# Altium schematic symbol library MOD-E73-2G4M04S1B.SchLib: 1 symbol
Pins are listed as number, name and electrical type; pins without a type are passive.

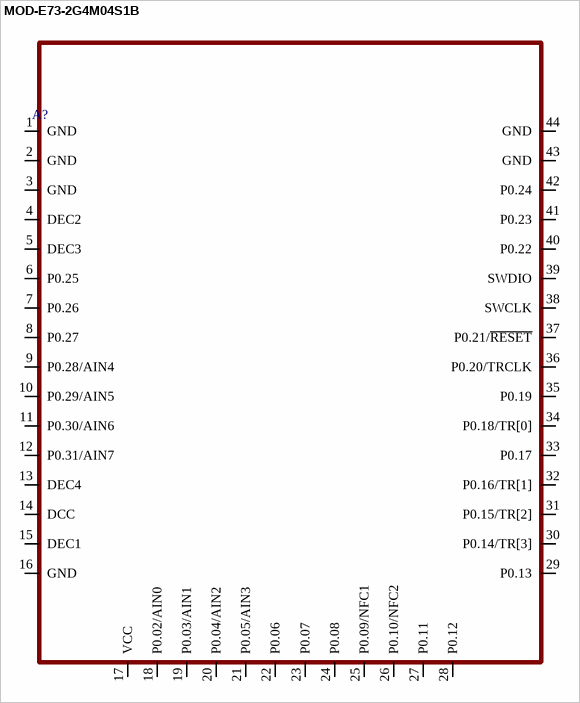
[diagram p0: symbol MOD-E73-2G4M04S1B]

## MOD-E73-2G4M04S1B
designator A?
pins: 1 GND, 2 GND, 3 GND, 4 DEC2, 5 DEC3, 6 P0.25, 7 P0.26, 8 P0.27, 9 P0.28/AIN4, 10 P0.29/AIN5, 11 P0.30/AIN6, 12 P0.31/AIN7, 13 DEC4, 14 DCC, 15 DEC1, 16 GND, 17 VCC, 18 P0.02/AIN0, 19 P0.03/AIN1, 20 P0.04/AIN2, 21 P0.05/AIN3, 22 P0.06, 23 P0.07, 24 P0.08, 25 P0.09/NFC1, 26 P0.10/NFC2, 27 P0.11, 28 P0.12, 29 P0.13, 30 P0.14/TR[3], 31 P0.15/TR[2], 32 P0.16/TR[1], 33 P0.17, 34 P0.18/TR[0], 35 P0.19, 36 P0.20/TRCLK, 37 P0.21/~{RESET}, 38 SWCLK, 39 SWDIO, 40 P0.22, 41 P0.23, 42 P0.24, 43 GND, 44 GND